# EAGLE library part STUSB4500BJR (library STUSB4500BJR)
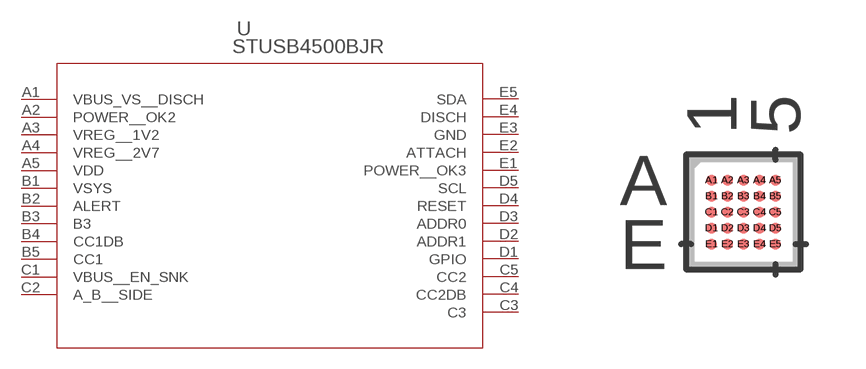
[diagram p0: symbol with the pads of BGA_00BJR_STM; footprint BGA_00BJR_STM]

Designator prefix U

## STUSB4500BJRBGA_00BJR_STM (Copyright: Copyright (C) 2022 Ultra Librarian. All rights reserved.; Digi-Key_Part_Number_1: 497-STUSB4500BJRTR-ND; Digi-Key_Part_Number_2: 497-STUSB4500BJRCT-ND; Digi-Key_Part_Number_3: 497-STUSB4500BJRDKR-ND; Manufacturer_Part_Number: STUSB4500BJR; Mfr_Name: STMicroelectronics)  [BGA_00BJR_STM]
A1  VBUS_VS__DISCH  pas
A2  POWER__OK2
A3  VREG__1V2
A4  VREG__2V7
A5  VDD  pwr
B1  VSYS  pas
B2  ALERT  pas
B3  B3  pas
B4  CC1DB
B5  CC1
C1  VBUS__EN_SNK  pas
C2  A_B__SIDE  pas
C3  C3  pas
C4  CC2DB
C5  CC2
D1  GPIO  pas
D2  ADDR1
D3  ADDR0
D4  RESET  pas
D5  SCL  pas
E1  POWER__OK3
E2  ATTACH  pas
E3  GND  pas
E4  DISCH  pas
E5  SDA  pas

## Footprint BGA_00BJR_STM (pad centres in mm)
smd 0.279 x 0.279: A1 -0.8,0.8; A2 -0.4,0.8; A3 0,0.8; A4 0.4,0.8; A5 0.8,0.8; B1 -0.8,0.4; B2 -0.4,0.4; B3 0,0.4; B4 0.4,0.4; B5 0.8,0.4; C1 -0.8,0; C2 -0.4,0; C3 0,0; C4 0.4,0; C5 0.8,0; D1 -0.8,-0.4; D2 -0.4,-0.4; D3 0,-0.4; D4 0.4,-0.4; D5 0.8,-0.4; E1 -0.8,-0.8; E2 -0.4,-0.8; E3 0,-0.8; E4 0.4,-0.8; E5 0.8,-0.8